# Altium integrated library Analog Devices RF IF Timing ICs and Clocks.IntLib: 168 symbols (part 18 of 18)
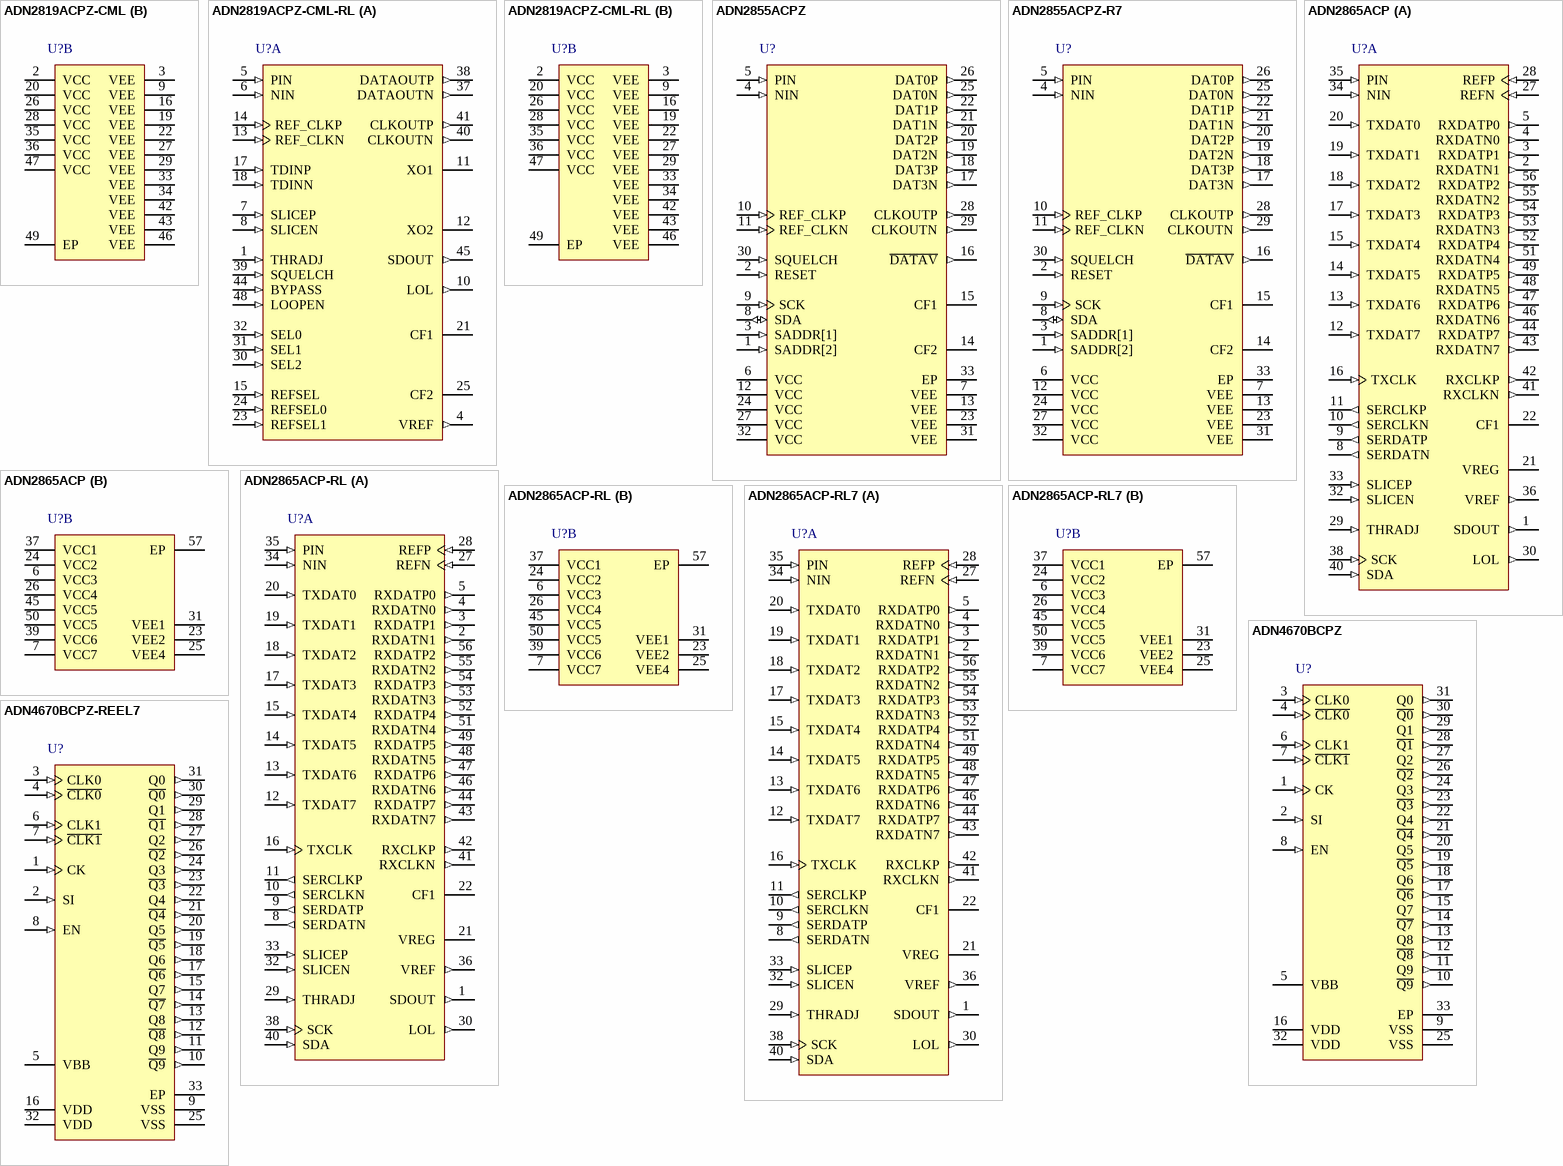
[diagram p32: symbols ADN2819ACPZ-CML to ADN4670BCPZ-REEL7]

## ADN4670BCPZ
designator U?
Programmable Low Voltage 1:10 LVDS Clock Driver, CP-32-7, Pb-Free, 490 Tray; +Supply Voltage (V): 2.5; Inputs: 2; Outputs: 10; On-Chip VCO or DCO: No; Max f-out (MHz): 1100; DatasheetVersion: Rev. A; PackageVersion: 112408-A; PackageReference: CP-32-7; PackageDescription: 32-Lead Lead Frame Chip Scale Package [LFCSP_WQ]; Product Description: Programmable Low Voltage 1; Dividers: 10; Output Logic: LVDS; Code_JEDEC: MO-220-WHHD; ComponentLink1Description: Manufacturer URL; ComponentLink1URL: www.analog.com; ComponentLink2Description: Datasheet; ComponentLink2URL: http://www.analog.com/static/imported-files/data_sheets/ADN4670.pdf; ComponentLink3Description: Package Specification; ComponentLink3URL: http://www.analog.com/static/imported-files/packages/CP_32_7.pdf
footprint ADI-CP-32-7_N (QFN, 32-Leads, Body 5x5mm, Pitch 0.5mm, Thermal Pad 3.1x3.1mm, IPC Medium Density)
footprint ADI-CP-32-7_L (QFN, 32-Leads, Body 5x5mm, Pitch 0.5mm, Thermal Pad 3.1x3.1mm, IPC High Density)
footprint ADI-CP-32-7_M (QFN, 32-Leads, Body 5x5mm, Pitch 0.5mm, Thermal Pad 3.1x3.1mm, IPC Low Density)
pins: 1 CK (in) "Programming Clock. Programming data is clocked in on a low-to-high transition at this input. If left open-circuit, it is pulled high by a 120 K ohm resistor", 2 SI (in) "Serial Data Input. This is the input for programming data. If left open-circuit, it is pulled low by a 120 K ohm resistor", 3 CLK0 (in) "Noninverting Differential Clock Input 0", 4 ~{CLK0} (in) "Inverting Differential Clock Input 0", 5 VBB (power) "Reference Voltage Output", 6 CLK1 (in) "Noninverting Differential Clock Input 1", 7 ~{CLK1} (in) "Inverting Differential Clock Input 1", 8 EN (in) "Active-High Enable Input. When this input is high, programming is enabled. If left open-circuit, it is pulled low by a 120 K ohm resistor", 9 VSS (power) "Device Ground", 10 ~{Q9} (out) "Inverted Clock Output. When the differential input voltage is between CLKx and C\L\K\x > 100 mV, this output sinks current. When the differential input voltage is between CLKx and C\L\K\x < -100 mV, this output sources current", 11 Q9 (out) "Noninverted Clock Output. When the differential input voltage is between CLKx and C\L\K\x > 100 mV, this output sources current. When the differential input voltage is between CLKx and C\L\K\x < -100 mV,this output sinks current", 12 ~{Q8} (out) "Inverted Clock Output. When the differential input voltage is between CLKx and C\L\K\x > 100 mV, this output sinks current. When the differential input voltage is between CLKx and C\L\K\x < -100 mV, this output sources current", 13 Q8 (out) "Noninverted Clock Output. When the differential input voltage is between CLKx and C\L\K\x > 100 mV, this output sources current. When the differential input voltage is between CLKx and C\L\K\x < -100 mV,this output sinks current", 14 ~{Q7} (out) "Inverted Clock Output. When the differential input voltage is between CLKx and C\L\K\x > 100 mV, this output sinks current. When the differential input voltage is between CLKx and C\L\K\x < -100 mV, this output sources current", 15 Q7 (out) "Noninverted Clock Output. When the differential input voltage is between CLKx and C\L\K\x > 100 mV, this output sources current. When the differential input voltage is between CLKx and C\L\K\x < -100 mV,this output sinks current", 16 VDD (power) "Power Supply Input. This part can be operated from 2.375 V to 2.625 V", 17 ~{Q6} (out) "Inverted Clock Output. When the differential input voltage is between CLKx and C\L\K\x > 100 mV, this output sinks current. When the differential input voltage is between CLKx and C\L\K\x < -100 mV, this output sources current", 18 Q6 (out) "Noninverted Clock Output. When the differential input voltage is between CLKx and C\L\K\x > 100 mV, this output sources current. When the differential input voltage is between CLKx and C\L\K\x < -100 mV,this output sinks current", 19 ~{Q5} (out) "Inverted Clock Output. When the differential input voltage is between CLKx and C\L\K\x > 100 mV, this output sinks current. When the differential input voltage is between CLKx and C\L\K\x < -100 mV, this output sources current", 20 Q5 (out) "Noninverted Clock Output. When the differential input voltage is between CLKx and C\L\K\x > 100 mV, this output sources current. When the differential input voltage is between CLKx and C\L\K\x < -100 mV,this output sinks current", 21 ~{Q4} (out) "Inverted Clock Output. When the differential input voltage is between CLKx and C\L\K\x > 100 mV, this output sinks current. When the differential input voltage is between CLKx and C\L\K\x < -100 mV, this output sources current", 22 Q4 (out) "Noninverted Clock Output. When the differential input voltage is between CLKx and C\L\K\x > 100 mV, this output sources current. When the differential input voltage is between CLKx and C\L\K\x < -100 mV,this output sinks current", 23 ~{Q3} (out) "Inverted Clock Output. When the differential input voltage is between CLKx and C\L\K\x > 100 mV, this output sinks current. When the differential input voltage is between CLKx and C\L\K\x < -100 mV, this output sources current", 24 Q3 (out) "Noninverted Clock Output. When the differential input voltage is between CLKx and C\L\K\x > 100 mV, this output sources current. When the differential input voltage is between CLKx and C\L\K\x < -100 mV,this output sinks current", 25 VSS (power) "Device Ground", 26 ~{Q2} (out) "Inverted Clock Output. When the differential input voltage is between CLKx and C\L\K\x > 100 mV, this output sinks current. When the differential input voltage is between CLKx and C\L\K\x < -100 mV, this output sources current", 27 Q2 (out) "Noninverted Clock Output. When the differential input voltage is between CLKx and C\L\K\x > 100 mV, this output sources current. When the differential input voltage is between CLKx and C\L\K\x < -100 mV,this output sinks current", 28 ~{Q1} (out) "Inverted Clock Output. When the differential input voltage is between CLKx and C\L\K\x > 100 mV, this output sinks current. When the differential input voltage is between CLKx and C\L\K\x < -100 mV, this output sources current", 29 Q1 (out) "Noninverted Clock Output. When the differential input voltage is between CLKx and C\L\K\x > 100 mV, this output sources current. When the differential input voltage is between CLKx and C\L\K\x < -100 mV,this output sinks current", 30 ~{Q0} (out) "Inverted Clock Output. When the differential input voltage is between CLKx and C\L\K\x > 100 mV, this output sinks current. When the differential input voltage is between CLKx and C\L\K\x < -100 mV, this output sources current", 31 Q0 (out) "Noninverted Clock Output. When the differential input voltage is between CLKx and C\L\K\x > 100 mV, this output sources current. When the differential input voltage is between CLKx and C\L\K\x < -100 mV,this output sinks current", 32 VDD (power) "Power Supply Input. This part can be operated from 2.375 V to 2.625 V", 33 EP (power) "Exposed Pad"

## ADN4670BCPZ-REEL7
designator U?
Programmable Low Voltage 1:10 LVDS Clock Driver, CP-32-7, Pb-Free, 1500 Reel; +Supply Voltage (V): 2.5; Inputs: 2; Outputs: 10; On-Chip VCO or DCO: No; Max f-out (MHz): 1100; DatasheetVersion: Rev. A; PackageVersion: 112408-A; PackageReference: CP-32-7; PackageDescription: 32-Lead Lead Frame Chip Scale Package [LFCSP_WQ]; Product Description: Programmable Low Voltage 1; Dividers: 10; Output Logic: LVDS; Code_JEDEC: MO-220-WHHD; ComponentLink1Description: Manufacturer URL; ComponentLink1URL: www.analog.com; ComponentLink2Description: Datasheet; ComponentLink2URL: http://www.analog.com/static/imported-files/data_sheets/ADN4670.pdf; ComponentLink3Description: Package Specification; ComponentLink3URL: http://www.analog.com/static/imported-files/packages/CP_32_7.pdf
footprint ADI-CP-32-7_N (QFN, 32-Leads, Body 5x5mm, Pitch 0.5mm, Thermal Pad 3.1x3.1mm, IPC Medium Density)
footprint ADI-CP-32-7_L (QFN, 32-Leads, Body 5x5mm, Pitch 0.5mm, Thermal Pad 3.1x3.1mm, IPC High Density)
footprint ADI-CP-32-7_M (QFN, 32-Leads, Body 5x5mm, Pitch 0.5mm, Thermal Pad 3.1x3.1mm, IPC Low Density)
pins: 1 CK (in) "Programming Clock. Programming data is clocked in on a low-to-high transition at this input. If left open-circuit, it is pulled high by a 120 K ohm resistor", 2 SI (in) "Serial Data Input. This is the input for programming data. If left open-circuit, it is pulled low by a 120 K ohm resistor", 3 CLK0 (in) "Noninverting Differential Clock Input 0", 4 ~{CLK0} (in) "Inverting Differential Clock Input 0", 5 VBB (power) "Reference Voltage Output", 6 CLK1 (in) "Noninverting Differential Clock Input 1", 7 ~{CLK1} (in) "Inverting Differential Clock Input 1", 8 EN (in) "Active-High Enable Input. When this input is high, programming is enabled. If left open-circuit, it is pulled low by a 120 K ohm resistor", 9 VSS (power) "Device Ground", 10 ~{Q9} (out) "Inverted Clock Output. When the differential input voltage is between CLKx and C\L\K\x > 100 mV, this output sinks current. When the differential input voltage is between CLKx and C\L\K\x < -100 mV, this output sources current", 11 Q9 (out) "Noninverted Clock Output. When the differential input voltage is between CLKx and C\L\K\x > 100 mV, this output sources current. When the differential input voltage is between CLKx and C\L\K\x < -100 mV,this output sinks current", 12 ~{Q8} (out) "Inverted Clock Output. When the differential input voltage is between CLKx and C\L\K\x > 100 mV, this output sinks current. When the differential input voltage is between CLKx and C\L\K\x < -100 mV, this output sources current", 13 Q8 (out) "Noninverted Clock Output. When the differential input voltage is between CLKx and C\L\K\x > 100 mV, this output sources current. When the differential input voltage is between CLKx and C\L\K\x < -100 mV,this output sinks current", 14 ~{Q7} (out) "Inverted Clock Output. When the differential input voltage is between CLKx and C\L\K\x > 100 mV, this output sinks current. When the differential input voltage is between CLKx and C\L\K\x < -100 mV, this output sources current", 15 Q7 (out) "Noninverted Clock Output. When the differential input voltage is between CLKx and C\L\K\x > 100 mV, this output sources current. When the differential input voltage is between CLKx and C\L\K\x < -100 mV,this output sinks current", 16 VDD (power) "Power Supply Input. This part can be operated from 2.375 V to 2.625 V", 17 ~{Q6} (out) "Inverted Clock Output. When the differential input voltage is between CLKx and C\L\K\x > 100 mV, this output sinks current. When the differential input voltage is between CLKx and C\L\K\x < -100 mV, this output sources current", 18 Q6 (out) "Noninverted Clock Output. When the differential input voltage is between CLKx and C\L\K\x > 100 mV, this output sources current. When the differential input voltage is between CLKx and C\L\K\x < -100 mV,this output sinks current", 19 ~{Q5} (out) "Inverted Clock Output. When the differential input voltage is between CLKx and C\L\K\x > 100 mV, this output sinks current. When the differential input voltage is between CLKx and C\L\K\x < -100 mV, this output sources current", 20 Q5 (out) "Noninverted Clock Output. When the differential input voltage is between CLKx and C\L\K\x > 100 mV, this output sources current. When the differential input voltage is between CLKx and C\L\K\x < -100 mV,this output sinks current", 21 ~{Q4} (out) "Inverted Clock Output. When the differential input voltage is between CLKx and C\L\K\x > 100 mV, this output sinks current. When the differential input voltage is between CLKx and C\L\K\x < -100 mV, this output sources current", 22 Q4 (out) "Noninverted Clock Output. When the differential input voltage is between CLKx and C\L\K\x > 100 mV, this output sources current. When the differential input voltage is between CLKx and C\L\K\x < -100 mV,this output sinks current", 23 ~{Q3} (out) "Inverted Clock Output. When the differential input voltage is between CLKx and C\L\K\x > 100 mV, this output sinks current. When the differential input voltage is between CLKx and C\L\K\x < -100 mV, this output sources current", 24 Q3 (out) "Noninverted Clock Output. When the differential input voltage is between CLKx and C\L\K\x > 100 mV, this output sources current. When the differential input voltage is between CLKx and C\L\K\x < -100 mV,this output sinks current", 25 VSS (power) "Device Ground", 26 ~{Q2} (out) "Inverted Clock Output. When the differential input voltage is between CLKx and C\L\K\x > 100 mV, this output sinks current. When the differential input voltage is between CLKx and C\L\K\x < -100 mV, this output sources current", 27 Q2 (out) "Noninverted Clock Output. When the differential input voltage is between CLKx and C\L\K\x > 100 mV, this output sources current. When the differential input voltage is between CLKx and C\L\K\x < -100 mV,this output sinks current", 28 ~{Q1} (out) "Inverted Clock Output. When the differential input voltage is between CLKx and C\L\K\x > 100 mV, this output sinks current. When the differential input voltage is between CLKx and C\L\K\x < -100 mV, this output sources current", 29 Q1 (out) "Noninverted Clock Output. When the differential input voltage is between CLKx and C\L\K\x > 100 mV, this output sources current. When the differential input voltage is between CLKx and C\L\K\x < -100 mV,this output sinks current", 30 ~{Q0} (out) "Inverted Clock Output. When the differential input voltage is between CLKx and C\L\K\x > 100 mV, this output sinks current. When the differential input voltage is between CLKx and C\L\K\x < -100 mV, this output sources current", 31 Q0 (out) "Noninverted Clock Output. When the differential input voltage is between CLKx and C\L\K\x > 100 mV, this output sources current. When the differential input voltage is between CLKx and C\L\K\x < -100 mV,this output sinks current", 32 VDD (power) "Power Supply Input. This part can be operated from 2.375 V to 2.625 V", 33 EP (power) "Exposed Pad"